# Altium footprint library LED.PcbLib: 36 footprints (part 2 of 3)
Each footprint in its own frame and in the unit in brackets; x right, y up, seen from the top. Pads: shape width x height; smd on the part's side, far side on the other; paste and mask are expansions set on the pad; w line width, h text height; cw(c..) or ccw(c..) is an arc to the next point about the centre after c.
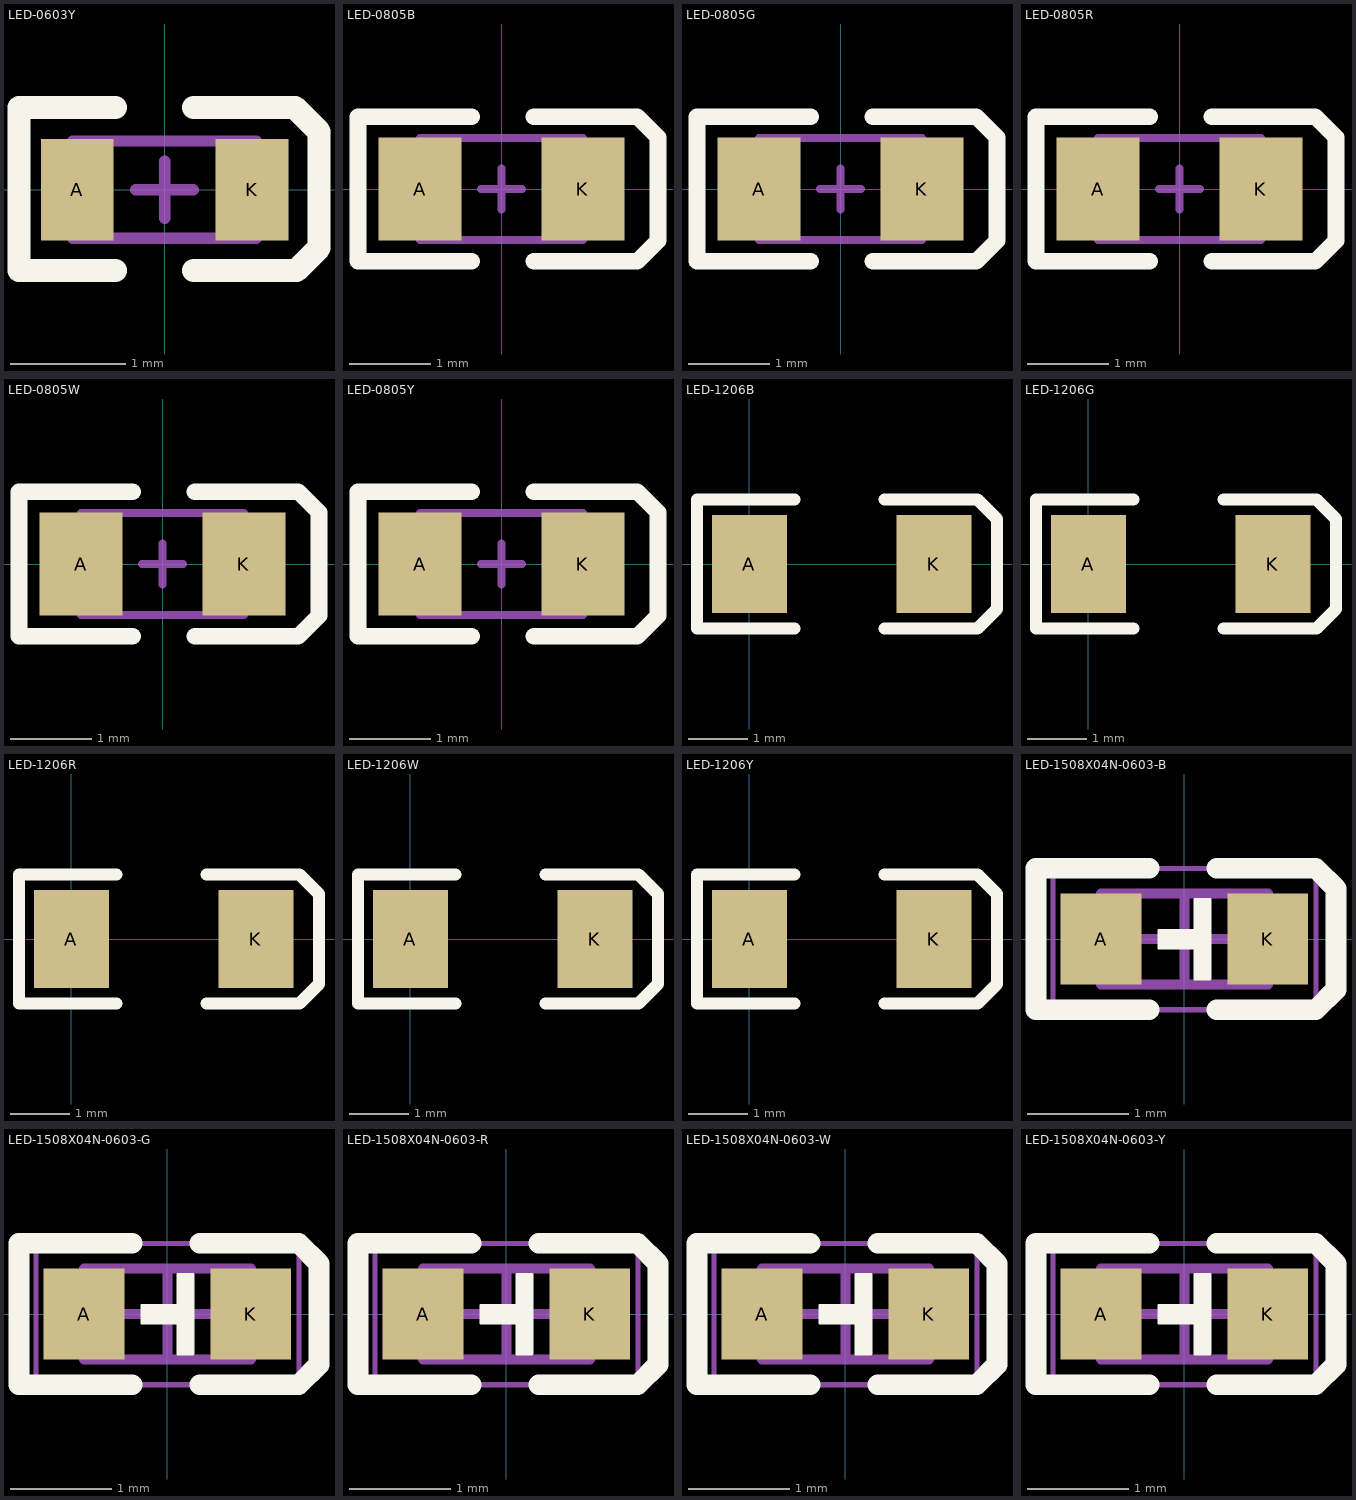
[diagram p1: the footprints below, top view; thin cyan lines are the x and y axes]

## LED-0603Y [mil]
pads (2):
  rect 25x35 smd: A(-30,0) K(30,0)
Top Overlay:
  lines w8: -17,-27.74 -50,-27.74 -50,28.26 -17,28.26 ; 10,-27.74 45.25,-27.74 53,-20 53,20 44.74,28.26 ; 10,28.26 44,28.26
Top Component Outline:
  lines w3.94: -31.5,-16.73 31.5,-16.73 31.5,16.73 -31.5,16.73 -31.5,-16.73
Top Component Center:
  lines w3.94: -9.84,0 9.84,0 ; 0,-9.84 0,9.84
Top Value:
  text "'.Comment'" at -53.89,-7.44 h25
Top Designator:
  text "'.Designator'" at -85.66,-11.64 h30
3D body "14.STEP": height 23.82, standoff -0.04, extent -31.5,-15.5 31.5,16.33

## LED-0805B [mm]
pads (2):
  rect 1.016x1.27 smd: A(-1,0) K(1,0)
Top Overlay:
  lines w0.203: -0.365,-0.889 -1.762,-0.889 -1.762,0.889 -0.365,0.889 ; 0.397,-0.889 1.667,-0.889 1.921,-0.635 1.921,0.635 1.667,0.889 0.397,0.889
Top Component Outline:
  lines w0.1: -1,-0.625 -1,0.625 1,0.625 1,-0.625 -1,-0.625
Top Component Center:
  lines w0.1: -0.25,0 0.25,0 ; 0,-0.25 0,0.25
Top Value:
  text "'.Comment'" at -1.369,-0.189 h0.64
Top Designator:
  text "'.Designator'" at -2.176,-0.296 h0.76
3D body "13.STEP": height 0.8, standoff 0, extent -1,-0.626 1,0.626

## LED-0805G [mm]
pads (2):
  rect 1.016x1.27 smd: A(-1,0) K(1,0)
Top Overlay:
  lines w0.203: -0.365,-0.889 -1.762,-0.889 -1.762,0.889 -0.365,0.889 ; 0.397,-0.889 1.667,-0.889 1.921,-0.635 1.921,0.635 1.667,0.889 0.397,0.889
Top Component Outline:
  lines w0.1: -1,-0.625 -1,0.625 1,0.625 1,-0.625 -1,-0.625
Top Component Center:
  lines w0.1: -0.25,0 0.25,0 ; 0,-0.25 0,0.25
Top Value:
  text "'.Comment'" at -1.369,-0.189 h0.64
Top Designator:
  text "'.Designator'" at -2.176,-0.296 h0.76
3D body "12.STEP": height 0.8, standoff 0, extent -1,-0.622 1,0.63

## LED-0805R [mm]
pads (2):
  rect 1.016x1.27 smd: A(-1,0) K(1,0)
Top Overlay:
  lines w0.203: -0.365,-0.889 -1.762,-0.889 -1.762,0.889 -0.365,0.889 ; 0.397,-0.889 1.667,-0.889 1.921,-0.635 1.921,0.635 1.667,0.889 0.397,0.889
Top Component Outline:
  lines w0.1: -1,-0.625 -1,0.625 1,0.625 1,-0.625 -1,-0.625
Top Component Center:
  lines w0.1: -0.25,0 0.25,0 ; 0,-0.25 0,0.25
Top Value:
  text "'.Comment'" at -1.369,-0.189 h0.64
Top Designator:
  text "'.Designator'" at -2.176,-0.296 h0.76
3D body "11.STEP": height 0.8, standoff 0, extent -1,-0.626 1,0.626

## LED-0805W [mm]
pads (2):
  rect 1.016x1.27 smd: A(-1,0) K(1,0)
Top Overlay:
  lines w0.203: -0.365,-0.889 -1.762,-0.889 -1.762,0.889 -0.365,0.889 ; 0.397,-0.889 1.667,-0.889 1.921,-0.635 1.921,0.635 1.667,0.889 0.397,0.889
Top Component Outline:
  lines w0.1: -1,-0.625 -1,0.625 1,0.625 1,-0.625 -1,-0.625
Top Component Center:
  lines w0.1: -0.25,0 0.25,0 ; 0,-0.25 0,0.25
Top Value:
  text "'.Comment'" at -1.369,-0.189 h0.64
Top Designator:
  text "'.Designator'" at -2.176,-0.296 h0.76
3D body "10.STEP": height 0.8, standoff 0, extent -1,-0.626 1,0.626

## LED-0805Y [mm]
pads (2):
  rect 1.016x1.27 smd: A(-1,0) K(1,0)
Top Overlay:
  lines w0.203: -0.365,-0.889 -1.762,-0.889 -1.762,0.889 -0.365,0.889 ; 0.397,-0.889 1.667,-0.889 1.921,-0.635 1.921,0.635 1.667,0.889 0.397,0.889
Top Component Outline:
  lines w0.1: -1,-0.625 -1,0.625 1,0.625 1,-0.625 -1,-0.625
Top Component Center:
  lines w0.1: -0.25,0 0.25,0 ; 0,-0.25 0,0.25
Top Value:
  text "'.Comment'" at -1.369,-0.189 h0.64
Top Designator:
  text "'.Designator'" at -2.176,-0.296 h0.76
3D body "m.STEP": height 0.8, standoff 0, extent -1,-0.626 1,0.626

## LED-1206B [mil]
pads (2):
  rect 50x65 smd: A(0,0) K(123,0)
Top Overlay:
  lines w8: 30,-43 -35,-43 -35,43 30,43 ; 90,-43 152,-43 165,-30 165,30 152,43 90,43
3D body "8.STEP": height 39.57, standoff -0.04, extent -3.06,-31.54 123,31.54

## LED-1206G [mil]
pads (2):
  rect 50x65 smd: A(0,0) K(123,0)
Top Overlay:
  lines w8: 30,-43 -35,-43 -35,43 30,43 ; 90,-43 152,-43 165,-30 165,30 152,43 90,43
3D body "7.STEP": height 39.57, standoff -0.04, extent -3.06,-31.53 123,31.53

## LED-1206R [mil]
pads (2):
  rect 50x65 smd: A(0,0) K(123,0)
Top Overlay:
  lines w8: 30,-43 -35,-43 -35,43 30,43 ; 90,-43 152,-43 165,-30 165,30 152,43 90,43
3D body "6.STEP": height 39.57, standoff -0.04, extent -3.06,-31.54 123,31.54

## LED-1206W [mil]
pads (2):
  rect 50x65 smd: A(0,0) K(123,0)
Top Overlay:
  lines w8: 30,-43 -35,-43 -35,43 30,43 ; 90,-43 152,-43 165,-30 165,30 152,43 90,43
3D body "5.STEP": height 39.57, standoff -0.04, extent 0,-30 126.06,33.07

## LED-1206Y [mil]
pads (2):
  rect 50x65 smd: A(0,0) K(123,0)
Top Overlay:
  lines w8: 30,-43 -35,-43 -35,43 30,43 ; 90,-43 152,-43 165,-30 165,30 152,43 90,43
3D body "4.STEP": height 39.57, standoff -0.04, extent -3.03,-33.07 123.03,30

## LED-1508X04N-0603-B [mm] "Chip Diode, 2-Leads, Body 1.55x0.80mm, IPC Medium Density"
height 0.45
pads (2):
  rect 0.8x0.9 smd: A(-0.825,0) K(0.825,0)
Top Overlay:
  region: 0.253,-0.395 0.1,-0.395 0.1,-0.09 -0.255,-0.09 -0.255,0.087 0.1,0.087 0.1,0.392 0.253,0.392
  lines w0.025: -0.255,-0.09 -0.255,0.087 0.1,0.087 0.1,0.392 0.253,0.392 0.253,-0.395 0.1,-0.395 0.1,-0.09 -0.255,-0.09
  lines w0.203: -0.35,-0.7 -1.47,-0.7 -1.47,0.7 -0.35,0.7 ; 0.319,-0.7 1.3,-0.7 1.5,-0.5 1.5,0.5 1.299,0.701 0.319,0.701
Top Value:
  text "'.Comment'" at -3.464,-0.478 h1.3
Top Designator:
  text "'.Designator'" at -4.588,-0.623 h1.3
Top Courtyard:
  lines w0.05: -1.3,-0.7 1.3,-0.7 1.3,0.7 -1.3,0.7 -1.3,-0.7
  lines w0.1: -0.45,0 0.45,0 ; 0,-0.45 0,0.45
Top Assembly (Mech20):
  lines w0.1: 0.525,-0.45 0.525,0.45 ; -0.825,-0.45 0.825,-0.45 0.825,0.45 -0.825,0.45 -0.825,-0.45
3D body "18.STEP": height 0.61, standoff 0, extent -0.8,-0.4 0.8,0.402

## LED-1508X04N-0603-G [mm] "Chip Diode, 2-Leads, Body 1.55x0.80mm, IPC Medium Density"
height 0.45
pads (2):
  rect 0.8x0.9 smd: A(-0.825,0) K(0.825,0)
Top Overlay:
  region: 0.253,-0.395 0.1,-0.395 0.1,-0.09 -0.255,-0.09 -0.255,0.087 0.1,0.087 0.1,0.392 0.253,0.392
  lines w0.025: -0.255,-0.09 -0.255,0.087 0.1,0.087 0.1,0.392 0.253,0.392 0.253,-0.395 0.1,-0.395 0.1,-0.09 -0.255,-0.09
  lines w0.203: -0.35,-0.7 -1.47,-0.7 -1.47,0.7 -0.35,0.7 ; 0.319,-0.7 1.3,-0.7 1.5,-0.5 1.5,0.5 1.299,0.701 0.319,0.701
Top Value:
  text "'.Comment'" at -3.464,-0.478 h1.3
Top Designator:
  text "'.Designator'" at -4.588,-0.623 h1.3
Top Courtyard:
  lines w0.05: -1.3,-0.7 1.3,-0.7 1.3,0.7 -1.3,0.7 -1.3,-0.7
  lines w0.1: -0.45,0 0.45,0 ; 0,-0.45 0,0.45
Top Assembly (Mech20):
  lines w0.1: 0.525,-0.45 0.525,0.45 ; -0.825,-0.45 0.825,-0.45 0.825,0.45 -0.825,0.45 -0.825,-0.45
3D body "17.STEP": height 0.61, standoff 0, extent -0.85,-0.401 0.75,0.401

## LED-1508X04N-0603-R [mm] "Chip Diode, 2-Leads, Body 1.55x0.80mm, IPC Medium Density"
height 0.45
pads (2):
  rect 0.8x0.9 smd: A(-0.825,0) K(0.825,0)
Top Overlay:
  region: 0.253,-0.395 0.1,-0.395 0.1,-0.09 -0.255,-0.09 -0.255,0.087 0.1,0.087 0.1,0.392 0.253,0.392
  lines w0.025: -0.255,-0.09 0.1,-0.09 0.1,-0.395 0.253,-0.395 0.253,0.392 0.1,0.392 0.1,0.087 -0.255,0.087 -0.255,-0.09
  lines w0.203: -0.35,-0.7 -1.47,-0.7 -1.47,0.7 -0.35,0.7 ; 0.319,-0.7 1.3,-0.7 1.5,-0.5 1.5,0.5 1.299,0.701 0.319,0.701
Top Value:
  text "'.Comment'" at -3.464,-0.478 h1.3
Top Designator:
  text "'.Designator'" at -4.588,-0.623 h1.3
Top Courtyard:
  lines w0.05: -1.3,-0.7 -1.3,0.7 1.3,0.7 1.3,-0.7 -1.3,-0.7
  lines w0.1: -0.45,0 0.45,0 ; 0,-0.45 0,0.45
Top Assembly (Mech20):
  lines w0.1: 0.525,-0.45 0.525,0.45 ; -0.825,-0.45 -0.825,0.45 0.825,0.45 0.825,-0.45 -0.825,-0.45
3D body "16.STEP": height 0.61, standoff 0, extent -0.762,-0.401 0.838,0.401

## LED-1508X04N-0603-W [mm] "Chip Diode, 2-Leads, Body 1.55x0.80mm, IPC Medium Density"
height 0.45
pads (2):
  rect 0.8x0.9 smd: A(-0.825,0) K(0.825,0)
Top Overlay:
  region: 0.253,-0.395 0.1,-0.395 0.1,-0.09 -0.255,-0.09 -0.255,0.087 0.1,0.087 0.1,0.392 0.253,0.392
  lines w0.025: -0.255,-0.09 0.1,-0.09 0.1,-0.395 0.253,-0.395 0.253,0.392 0.1,0.392 0.1,0.087 -0.255,0.087 -0.255,-0.09
  lines w0.203: -0.35,-0.7 -1.47,-0.7 -1.47,0.7 -0.35,0.7 ; 0.319,-0.7 1.3,-0.7 1.5,-0.5 1.5,0.5 1.299,0.701 0.319,0.701
Top Value:
  text "'.Comment'" at -3.464,-0.478 h1.3
Top Designator:
  text "'.Designator'" at -4.588,-0.623 h1.3
Top Courtyard:
  lines w0.05: -1.3,-0.7 -1.3,0.7 1.3,0.7 1.3,-0.7 -1.3,-0.7
  lines w0.1: -0.45,0 0.45,0 ; 0,-0.45 0,0.45
Top Assembly (Mech20):
  lines w0.1: 0.525,-0.45 0.525,0.45 ; -0.825,-0.45 -0.825,0.45 0.825,0.45 0.825,-0.45 -0.825,-0.45
3D body "15.STEP": height 0.61, standoff 0, extent -0.8,-0.4 0.8,0.402

## LED-1508X04N-0603-Y [mm] "Chip Diode, 2-Leads, Body 1.55x0.80mm, IPC Medium Density"
height 0.45
pads (2):
  rect 0.8x0.9 smd: A(-0.825,0) K(0.825,0)
Top Overlay:
  region: 0.253,-0.395 0.1,-0.395 0.1,-0.09 -0.255,-0.09 -0.255,0.087 0.1,0.087 0.1,0.392 0.253,0.392
  lines w0.025: -0.255,-0.09 0.1,-0.09 0.1,-0.395 0.253,-0.395 0.253,0.392 0.1,0.392 0.1,0.087 -0.255,0.087 -0.255,-0.09
  lines w0.203: -0.35,-0.7 -1.47,-0.7 -1.47,0.7 -0.35,0.7 ; 0.319,-0.7 1.3,-0.7 1.5,-0.5 1.5,0.5 1.299,0.701 0.319,0.701
Top Value:
  text "'.Comment'" at -3.464,-0.478 h1.3
Top Designator:
  text "'.Designator'" at -4.588,-0.623 h1.3
Top Courtyard:
  lines w0.05: -1.3,-0.7 -1.3,0.7 1.3,0.7 1.3,-0.7 -1.3,-0.7
  lines w0.1: -0.45,0 0.45,0 ; 0,-0.45 0,0.45
Top Assembly (Mech20):
  lines w0.1: 0.525,-0.45 0.525,0.45 ; -0.825,-0.45 -0.825,0.45 0.825,0.45 0.825,-0.45 -0.825,-0.45
3D body "14.STEP": height 0.61, standoff 0, extent -0.8,-0.394 0.8,0.415